# EAGLE library part LC4064V-75TN48C (library CPLD)
IC CPLD 64MC 7.5NS 48TQFP Manufacturer's datasheet <file:///C:/Users/cam.RITESOURCE/Downloads/PackageDiagrams.pdf>
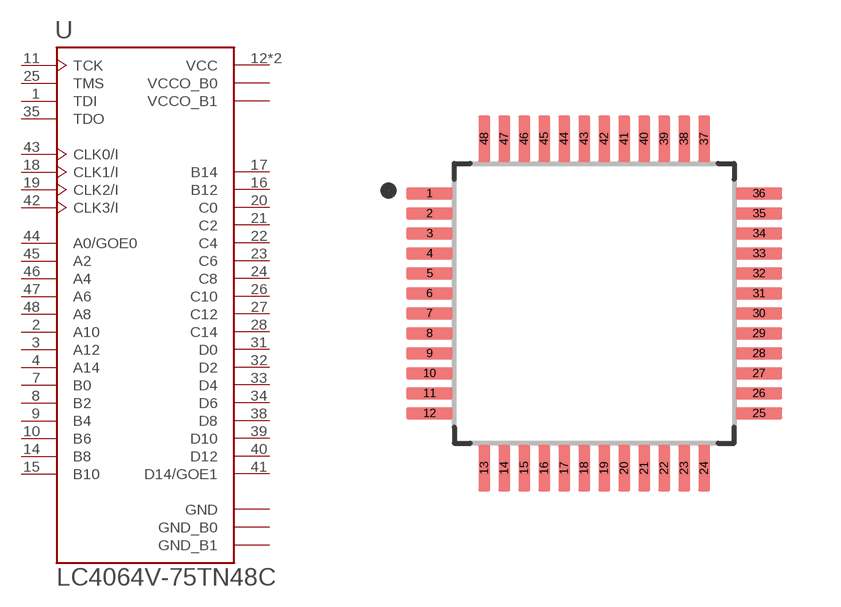
[diagram p0: symbol with the pads of TQFP-48; footprint TQFP-48]

Designator prefix U

## LC4064V-75TN48C (CREATED_BY: PCBLayout.com; DIGIKEY_PN: 220-1038-ND; MANUFACTURER: Lattice Semiconductor Corporation; MPN: LC4064V-75TN48C; PACKAGE: TQFP-48)  [TQFP-48]
1  TDI  in
2  A10
3  A12
4  A14
7  B0
8  B2
9  B4
10  B6
11  TCK  in
12  VCC  pwr
14  B8
15  B10
16  B12
17  B14
18  CLK1/I  in
19  CLK2/I  in
20  C0
21  C2
22  C4
23  C6
24  C8
25  TMS  in
26  C10
27  C12
28  C14
31  D0
32  D2
33  D4
34  D6
35  TDO  out
36  VCC  pwr
38  D8
39  D10
40  D12
41  D14/GOE1
42  CLK3/I  in
43  CLK0/I  in
44  A0/GOE0
45  A2
46  A4
47  A6
48  A8

## Footprint TQFP-48 (pad centres in mm)
smd 1.17 x 0.3: 1 -4.12,2.75; 2 -4.12,2.25; 3 -4.12,1.75; 4 -4.12,1.25; 5 -4.12,0.75; 6 -4.12,0.25; 7 -4.12,-0.25; 8 -4.12,-0.75; 9 -4.12,-1.25; 10 -4.12,-1.75; 11 -4.12,-2.25; 12 -4.12,-2.75; 25 4.12,-2.75; 26 4.12,-2.25; 27 4.12,-1.75; 28 4.12,-1.25; 29 4.12,-0.75; 30 4.12,-0.25; 31 4.12,0.25; 32 4.12,0.75; 33 4.12,1.25; 34 4.12,1.75; 35 4.12,2.25; 36 4.12,2.75
smd 0.3 x 1.17: 13 -2.75,-4.12; 14 -2.25,-4.12; 15 -1.75,-4.12; 16 -1.25,-4.12; 17 -0.75,-4.12; 18 -0.25,-4.12; 19 0.25,-4.12; 20 0.75,-4.12; 21 1.25,-4.12; 22 1.75,-4.12; 23 2.25,-4.12; 24 2.75,-4.12; 37 2.75,4.12; 38 2.25,4.12; 39 1.75,4.12; 40 1.25,4.12; 41 0.75,4.12; 42 0.25,4.12; 43 -0.25,4.12; 44 -0.75,4.12; 45 -1.25,4.12; 46 -1.75,4.12; 47 -2.25,4.12; 48 -2.75,4.12